# EAGLE library part GY-521-MPU-6050 (library esp-wroom-32)
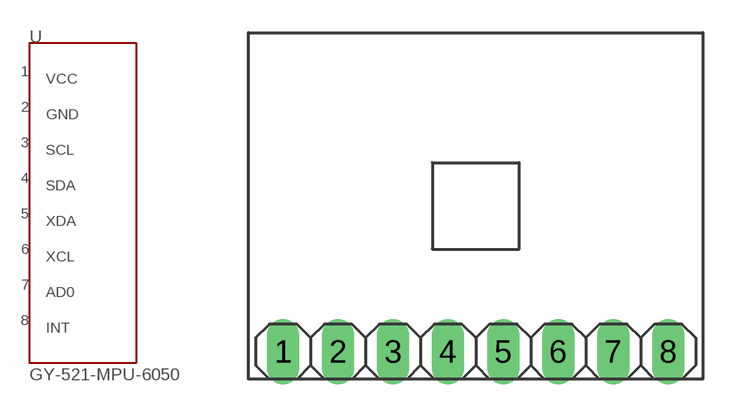
[diagram p1: symbol with the pads of GY-521; footprint GY-521]

Designator prefix -

## GY-521-MPU-6050  [GY-521]
1  VCC
2  GND
3  SCL
4  SDA
5  XDA
6  XCL
7  AD0
8  INT

## Footprint GY-521 (pad centres in mm)
drill 1 long: 1 -8.89,-6.73; 2 -6.35,-6.73; 3 -3.81,-6.73; 4 -1.27,-6.73; 5 1.27,-6.73; 6 3.81,-6.73; 7 6.35,-6.73; 8 8.89,-6.73